# Altium footprint library Packages_BGA.PcbLib: 4 footprints
Each footprint in its own frame and in the unit in brackets; x right, y up, seen from the top. Pads: shape width x height; smd on the part's side, far side on the other; paste and mask are expansions set on the pad; w line width, h text height; cw(c..) or ccw(c..) is an arc to the next point about the centre after c.
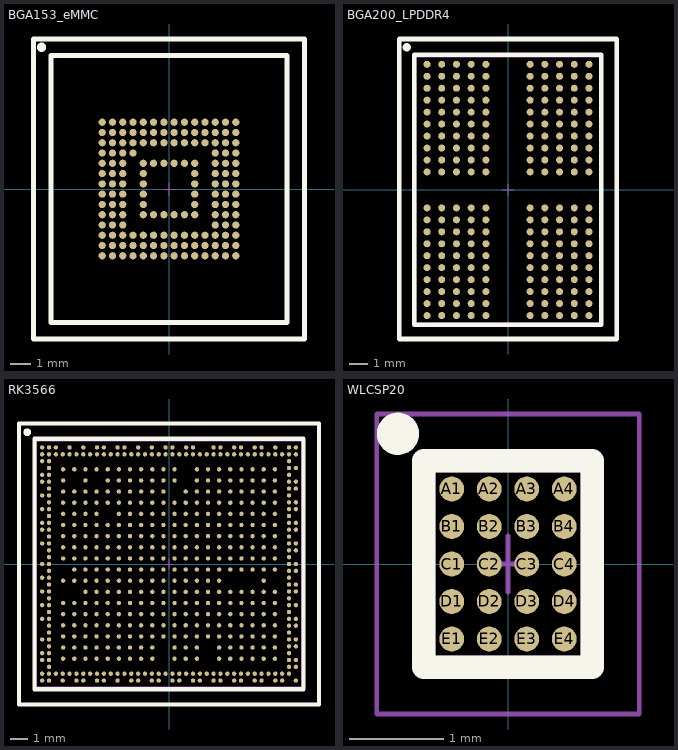
[diagram p0: the footprints below, top view; thin cyan lines are the x and y axes]

## BGA153_eMMC [mm]
height 0.8
pads (153):
  round 0.35 smd: A1(-3.25,3.25) A2(-2.75,3.25) A3(-2.25,3.25) A4(-1.75,3.25) A5(-1.25,3.25) A6(-0.75,3.25) A7(-0.25,3.25) A8(0.25,3.25) A9(0.75,3.25) A10(1.25,3.25) A11(1.75,3.25) A12(2.25,3.25) A13(2.75,3.25) A14(3.25,3.25) B1(-3.25,2.75) B2(-2.75,2.75) B3(-2.25,2.75) B4(-1.75,2.75) B5(-1.25,2.75) B6(-0.75,2.75) B7(-0.25,2.75) B8(0.25,2.75) B9(0.75,2.75) B10(1.25,2.75) B11(1.75,2.75) B12(2.25,2.75) B13(2.75,2.75) B14(3.25,2.75) C1(-3.25,2.25) C2(-2.75,2.25) C3(-2.25,2.25) C4(-1.75,2.25) C5(-1.25,2.25) C6(-0.75,2.25) C7(-0.25,2.25) C8(0.25,2.25) C9(0.75,2.25) C10(1.25,2.25) C11(1.75,2.25) C12(2.25,2.25) C13(2.75,2.25) C14(3.25,2.25) D1(-3.25,1.75) D2(-2.75,1.75) D3(-2.25,1.75) D4(-1.75,1.75) D12(2.25,1.75) D13(2.75,1.75) D14(3.25,1.75) E1(-3.25,1.25) E2(-2.75,1.25) E3(-2.25,1.25) E5(-1.25,1.25) E6(-0.75,1.25) E7(-0.25,1.25) E8(0.25,1.25) E9(0.75,1.25) E10(1.25,1.25) E12(2.25,1.25) E13(2.75,1.25) E14(3.25,1.25) F1(-3.25,0.75) F2(-2.75,0.75) F3(-2.25,0.75) F5(-1.25,0.75) F10(1.25,0.75) F12(2.25,0.75) F13(2.75,0.75) F14(3.25,0.75) G1(-3.25,0.25) G2(-2.75,0.25) G3(-2.25,0.25) G5(-1.25,0.25) G10(1.25,0.25) G12(2.25,0.25) G13(2.75,0.25) G14(3.25,0.25) H1(-3.25,-0.25) H2(-2.75,-0.25) H3(-2.25,-0.25) H5(-1.25,-0.25) H10(1.25,-0.25) H12(2.25,-0.25) H13(2.75,-0.25) H14(3.25,-0.25) J1(-3.25,-0.75) J2(-2.75,-0.75) J3(-2.25,-0.75) J5(-1.25,-0.75) J10(1.25,-0.75) J12(2.25,-0.75) J13(2.75,-0.75) J14(3.25,-0.75) K1(-3.25,-1.25) K2(-2.75,-1.25) K3(-2.25,-1.25) K5(-1.25,-1.25) K6(-0.75,-1.25) K7(-0.25,-1.25) K8(0.25,-1.25) K9(0.75,-1.25) K10(1.25,-1.25) K12(2.25,-1.25) K13(2.75,-1.25) K14(3.25,-1.25) L1(-3.25,-1.75) L2(-2.75,-1.75) L3(-2.25,-1.75) L12(2.25,-1.75) L13(2.75,-1.75) L14(3.25,-1.75) M1(-3.25,-2.25) M2(-2.75,-2.25) M3(-2.25,-2.25) M4(-1.75,-2.25) M5(-1.25,-2.25) M6(-0.75,-2.25) M7(-0.25,-2.25) M8(0.25,-2.25) M9(0.75,-2.25) M10(1.25,-2.25) M11(1.75,-2.25) M12(2.25,-2.25) M13(2.75,-2.25) M14(3.25,-2.25) N1(-3.25,-2.75) N2(-2.75,-2.75) N3(-2.25,-2.75) N4(-1.75,-2.75) N5(-1.25,-2.75) N6(-0.75,-2.75) N7(-0.25,-2.75) N8(0.25,-2.75) N9(0.75,-2.75) N10(1.25,-2.75) N11(1.75,-2.75) N12(2.25,-2.75) N13(2.75,-2.75) N14(3.25,-2.75) P1(-3.25,-3.25) P2(-2.75,-3.25) P3(-2.25,-3.25) P4(-1.75,-3.25) P5(-1.25,-3.25) P6(-0.75,-3.25) P7(-0.25,-3.25) P8(0.25,-3.25) P9(0.75,-3.25) P10(1.25,-3.25) P11(1.75,-3.25) P12(2.25,-3.25) P13(2.75,-3.25) P14(3.25,-3.25)
Top Overlay:
  circle w0.25: c-6.2,6.9 r0.1
  lines w0.25: -6.6,-7.3 6.6,-7.3 6.6,7.3 -6.6,7.3 -6.6,-7.3 ; -5.75,-6.5 -5.75,6.5 5.75,6.5 5.75,-6.5 -5.75,-6.5
Mechanical 13:
  circle w0.2: c-6.2,6.9 r0.1
  lines w0.1: -5.75,-6.5 -5.75,6.5 5.75,6.5 5.75,-6.5 -5.75,-6.5
Mechanical 15:
  lines w0.05: -0.3,0 0.3,0 ; 0,-0.3 0,0.3 ; -6.6,-7.3 -6.6,7.3 6.6,7.3 6.6,-7.3 -6.6,-7.3
3D body "eMMC_BGA-153.STEP": height 0.8, standoff 0, extent -5.75,-6.5 5.75,6.5

## BGA200_LPDDR4 [mm]
pads (200):
  round 0.38 smd: A1(-4.4,6.825) A2(-3.6,6.825) A3(-2.8,6.825) A4(-2,6.825) A5(-1.2,6.825) A8(1.2,6.825) A9(2,6.825) A10(2.8,6.825) A11(3.6,6.825) A12(4.4,6.825) AA1(-4.4,-6.175) AA2(-3.6,-6.175) AA3(-2.8,-6.175) AA4(-2,-6.175) AA5(-1.2,-6.175) AA8(1.2,-6.175) AA9(2,-6.175) AA10(2.8,-6.175) AA11(3.6,-6.175) AA12(4.4,-6.175) AB1(-4.4,-6.825) AB2(-3.6,-6.825) AB3(-2.8,-6.825) AB4(-2,-6.825) AB5(-1.2,-6.825) AB8(1.2,-6.825) AB9(2,-6.825) AB10(2.8,-6.825) AB11(3.6,-6.825) AB12(4.4,-6.825) B1(-4.4,6.175) B2(-3.6,6.175) B3(-2.8,6.175) B4(-2,6.175) B5(-1.2,6.175) B8(1.2,6.175) B9(2,6.175) B10(2.8,6.175) B11(3.6,6.175) B12(4.4,6.175) C1(-4.4,5.525) C2(-3.6,5.525) C3(-2.8,5.525) C4(-2,5.525) C5(-1.2,5.525) C8(1.2,5.525) C9(2,5.525) C10(2.8,5.525) C11(3.6,5.525) C12(4.4,5.525) D1(-4.4,4.875) D2(-3.6,4.875) D3(-2.8,4.875) D4(-2,4.875) D5(-1.2,4.875) D8(1.2,4.875) D9(2,4.875) D10(2.8,4.875) D11(3.6,4.875) D12(4.4,4.875) E1(-4.4,4.225) E2(-3.6,4.225) E3(-2.8,4.225) E4(-2,4.225) E5(-1.2,4.225) E8(1.2,4.225) E9(2,4.225) E10(2.8,4.225) E11(3.6,4.225) E12(4.4,4.225) F1(-4.4,3.575) F2(-3.6,3.575) F3(-2.8,3.575) F4(-2,3.575) F5(-1.2,3.575) F8(1.2,3.575) F9(2,3.575) F10(2.8,3.575) F11(3.6,3.575) F12(4.4,3.575) G1(-4.4,2.925) G2(-3.6,2.925) G3(-2.8,2.925) G4(-2,2.925) G5(-1.2,2.925) G8(1.2,2.925) G9(2,2.925) G10(2.8,2.925) G11(3.6,2.925) G12(4.4,2.925) H1(-4.4,2.275) H2(-3.6,2.275) H3(-2.8,2.275) H4(-2,2.275) H5(-1.2,2.275) H8(1.2,2.275) H9(2,2.275) H10(2.8,2.275) H11(3.6,2.275) H12(4.4,2.275) J1(-4.4,1.625) J2(-3.6,1.625) J3(-2.8,1.625) J4(-2,1.625) J5(-1.2,1.625) J8(1.2,1.625) J9(2,1.625) J10(2.8,1.625) J11(3.6,1.625) J12(4.4,1.625) K1(-4.4,0.975) K2(-3.6,0.975) K3(-2.8,0.975) K4(-2,0.975) K5(-1.2,0.975) K8(1.2,0.975) K9(2,0.975) K10(2.8,0.975) K11(3.6,0.975) K12(4.4,0.975) N1(-4.4,-0.975) N2(-3.6,-0.975) N3(-2.8,-0.975) N4(-2,-0.975) N5(-1.2,-0.975) N8(1.2,-0.975) N9(2,-0.975) N10(2.8,-0.975) N11(3.6,-0.975) N12(4.4,-0.975) P1(-4.4,-1.625) P2(-3.6,-1.625) P3(-2.8,-1.625) P4(-2,-1.625) P5(-1.2,-1.625) P8(1.2,-1.625) P9(2,-1.625) P10(2.8,-1.625) P11(3.6,-1.625) P12(4.4,-1.625) R1(-4.4,-2.275) R2(-3.6,-2.275) R3(-2.8,-2.275) R4(-2,-2.275) R5(-1.2,-2.275) R8(1.2,-2.275) R9(2,-2.275) R10(2.8,-2.275) R11(3.6,-2.275) R12(4.4,-2.275) T1(-4.4,-2.925) T2(-3.6,-2.925) T3(-2.8,-2.925) T4(-2,-2.925) T5(-1.2,-2.925) T8(1.2,-2.925) T9(2,-2.925) T10(2.8,-2.925) T11(3.6,-2.925) T12(4.4,-2.925) U1(-4.4,-3.575) U2(-3.6,-3.575) U3(-2.8,-3.575) U4(-2,-3.575) U5(-1.2,-3.575) U8(1.2,-3.575) U9(2,-3.575) U10(2.8,-3.575) U11(3.6,-3.575) U12(4.4,-3.575) V1(-4.4,-4.225) V2(-3.6,-4.225) V3(-2.8,-4.225) V4(-2,-4.225) V5(-1.2,-4.225) V8(1.2,-4.225) V9(2,-4.225) V10(2.8,-4.225) V11(3.6,-4.225) V12(4.4,-4.225) W1(-4.4,-4.875) W2(-3.6,-4.875) W3(-2.8,-4.875) W4(-2,-4.875) W5(-1.2,-4.875) W8(1.2,-4.875) W9(2,-4.875) W10(2.8,-4.875) W11(3.6,-4.875) W12(4.4,-4.875) Y1(-4.4,-5.525) Y2(-3.6,-5.525) Y3(-2.8,-5.525) Y4(-2,-5.525) Y5(-1.2,-5.525) Y8(1.2,-5.525) Y9(2,-5.525) Y10(2.8,-5.525) Y11(3.6,-5.525) Y12(4.4,-5.525)
Top Overlay:
  circle w0.25: c-5.5,7.75 r0.1
  lines w0.25: -5.9,-8.1 5.9,-8.1 5.9,8.2 -5.9,8.2 -5.9,-8.1 ; -5.1,-7.335 -5.1,7.335 5.075,7.335 5.075,-7.335 -5.1,-7.335
Mechanical 13:
  circle w0.2: c-5.5,7.75 r0.1
  lines w0.1: -5.025,-7.25 -5.025,7.25 5,7.25 5,-7.25 -5.025,-7.25
Mechanical 15:
  lines w0.05: -0.3,0 0.3,0 ; 0,-0.3 0,0.3 ; -5.9,-8.1 -5.9,8.2 5.9,8.2 5.9,-8.1 -5.9,-8.1
3D body "LPDDR4_BGA-200.STEP": height 0.95, standoff 0, extent -5,-7.25 5,7.25

## RK3566 [mm]
height 0.904
pads (565):
  round 0.25 smd mask+0.05: 1A1(-6.175,5.525) 1A2(-5.525,5.525) 1A3(-4.875,5.525) 1A4(-4.225,5.525) 1A5(-3.575,5.525) 1A6(-2.925,5.525) 1A7(-2.275,5.525) 1A8(-1.625,5.525) 1A9(-0.975,5.525) 1A10(-0.325,5.525) 1A11(0.325,5.525) 1A13(1.625,5.525) 1A14(2.275,5.525) 1A15(2.925,5.525) 1A16(3.575,5.525) 1A17(4.225,5.525) 1A18(4.875,5.525) 1A19(5.525,5.525) 1A20(6.175,5.525) 1B1(-6.175,4.875) 1B3(-4.875,4.875) 1B5(-3.575,4.875) 1B6(-2.925,4.875) 1B7(-2.275,4.875) 1B8(-1.625,4.875) 1B9(-0.975,4.875) 1B10(-0.325,4.875) 1B11(0.325,4.875) 1B13(1.625,4.875) 1B14(2.275,4.875) 1B15(2.925,4.875) 1B16(3.575,4.875) 1B17(4.225,4.875) 1B18(4.875,4.875) 1B19(5.525,4.875) 1B20(6.175,4.875) 1C1(-6.175,4.225) 1C2(-5.525,4.225) 1C3(-4.875,4.225) 1C4(-4.225,4.225) 1C5(-3.575,4.225) 1C6(-2.925,4.225) 1C7(-2.275,4.225) 1C8(-1.625,4.225) 1C9(-0.975,4.225) 1C10(-0.325,4.225) 1C12(0.975,4.225) 1C13(1.625,4.225) 1C14(2.275,4.225) 1C15(2.925,4.225) 1C16(3.575,4.225) 1C17(4.225,4.225) 1C18(4.875,4.225) 1C19(5.525,4.225) 1C20(6.175,4.225) 1D1(-6.175,3.575) 1D2(-5.525,3.575) 1D3(-4.875,3.575) 1D4(-4.225,3.575) 1D5(-3.575,3.575) 1D6(-2.925,3.575) 1D7(-2.275,3.575) 1D8(-1.625,3.575) 1D9(-0.975,3.575) 1D10(-0.325,3.575) 1D11(0.325,3.575) 1D12(0.975,3.575) 1D13(1.625,3.575) 1D14(2.275,3.575) 1D15(2.925,3.575) 1D16(3.575,3.575) 1D17(4.225,3.575) 1D18(4.875,3.575) 1D19(5.525,3.575) 1D20(6.175,3.575) 1E1(-6.175,2.925) 1E2(-5.525,2.925) 1E3(-4.875,2.925) 1E4(-4.225,2.925) 1E6(-2.925,2.925) 1E7(-2.275,2.925) 1E8(-1.625,2.925) 1E9(-0.975,2.925) 1E10(-0.325,2.925) 1E11(0.325,2.925) 1E12(0.975,2.925) 1E13(1.625,2.925) 1E14(2.275,2.925) 1E15(2.925,2.925) 1E16(3.575,2.925) 1E17(4.225,2.925) 1E18(4.875,2.925) 1E19(5.525,2.925) 1E20(6.175,2.925) 1F1(-6.175,2.275) 1F2(-5.525,2.275) 1F3(-4.875,2.275) 1F4(-4.225,2.275) 1F5(-3.575,2.275) 1F6(-2.925,2.275) 1F7(-2.275,2.275) 1F8(-1.625,2.275) 1F9(-0.975,2.275) 1F10(-0.325,2.275) 1F11(0.325,2.275) 1F12(0.975,2.275) 1F13(1.625,2.275) 1F14(2.275,2.275) 1F15(2.925,2.275) 1F16(3.575,2.275) 1F17(4.225,2.275) 1F18(4.875,2.275) 1F19(5.525,2.275) 1F20(6.175,2.275) 1G1(-6.175,1.625) 1G2(-5.525,1.625) 1G3(-4.875,1.625) 1G4(-4.225,1.625) 1G5(-3.575,1.625) 1G6(-2.925,1.625) 1G7(-2.275,1.625) 1G8(-1.625,1.625) 1G9(-0.975,1.625) 1G10(-0.325,1.625) 1G11(0.325,1.625) 1G12(0.975,1.625) 1G13(1.625,1.625) 1G14(2.275,1.625) 1G15(2.925,1.625) 1G16(3.575,1.625) 1G17(4.225,1.625) 1G18(4.875,1.625) 1G19(5.525,1.625) 1G20(6.175,1.625) 1H1(-6.175,0.975) 1H2(-5.525,0.975) 1H3(-4.875,0.975) 1H4(-4.225,0.975) 1H5(-3.575,0.975) 1H6(-2.925,0.975) 1H7(-2.275,0.975) 1H8(-1.625,0.975) 1H9(-0.975,0.975) 1H10(-0.325,0.975) 1H11(0.325,0.975) 1H12(0.975,0.975) 1H13(1.625,0.975) 1H14(2.275,0.975) 1H15(2.925,0.975) 1H16(3.575,0.975) 1H17(4.225,0.975) 1H18(4.875,0.975) 1H19(5.525,0.975) 1H20(6.175,0.975) 1J1(-6.175,0.325) 1J2(-5.525,0.325) 1J3(-4.875,0.325) 1J4(-4.225,0.325) 1J5(-3.575,0.325) 1J6(-2.925,0.325) 1J7(-2.275,0.325) 1J8(-1.625,0.325) 1J9(-0.975,0.325) 1J10(-0.325,0.325) 1J11(0.325,0.325) 1J12(0.975,0.325) 1J13(1.625,0.325) 1J14(2.275,0.325) 1J15(2.925,0.325) 1J16(3.575,0.325) 1J17(4.225,0.325) 1J18(4.875,0.325) 1J19(5.525,0.325) 1J20(6.175,0.325) 1K2(-5.525,-0.325) 1K3(-4.875,-0.325) 1K4(-4.225,-0.325) 1K5(-3.575,-0.325) 1K6(-2.925,-0.325) 1K7(-2.275,-0.325) 1K8(-1.625,-0.325) 1K9(-0.975,-0.325) 1K10(-0.325,-0.325) 1K11(0.325,-0.325) 1K12(0.975,-0.325) 1K13(1.625,-0.325) 1K14(2.275,-0.325) 1K15(2.925,-0.325) 1K16(3.575,-0.325) 1K17(4.225,-0.325) 1K18(4.875,-0.325) 1K19(5.525,-0.325) 1K20(6.175,-0.325) 1L1(-6.175,-0.975) 1L2(-5.525,-0.975) 1L3(-4.875,-0.975) 1L4(-4.225,-0.975) 1L5(-3.575,-0.975) 1L6(-2.925,-0.975) 1L7(-2.275,-0.975) 1L8(-1.625,-0.975) 1L9(-0.975,-0.975) 1L10(-0.325,-0.975) 1L11(0.325,-0.975) 1L12(0.975,-0.975) 1L13(1.625,-0.975) 1L14(2.275,-0.975) 1L15(2.925,-0.975) 1L19(5.525,-0.975) 1M3(-4.875,-1.625) 1M4(-4.225,-1.625) 1M5(-3.575,-1.625) 1M6(-2.925,-1.625) 1M7(-2.275,-1.625) 1M8(-1.625,-1.625) 1M9(-0.975,-1.625) 1M10(-0.325,-1.625) 1M11(0.325,-1.625) 1M12(0.975,-1.625) 1M13(1.625,-1.625) 1M14(2.275,-1.625) 1M15(2.925,-1.625) 1M16(3.575,-1.625) 1M17(4.225,-1.625) 1M18(4.875,-1.625) 1M19(5.525,-1.625) 1M20(6.175,-1.625) 1N1(-6.175,-2.275) 1N2(-5.525,-2.275) 1N3(-4.875,-2.275) 1N4(-4.225,-2.275) 1N5(-3.575,-2.275) 1N6(-2.925,-2.275) 1N7(-2.275,-2.275) 1N8(-1.625,-2.275) 1N9(-0.975,-2.275) 1N10(-0.325,-2.275) 1N11(0.325,-2.275) 1N12(0.975,-2.275) 1N13(1.625,-2.275) 1N14(2.275,-2.275) 1N15(2.925,-2.275) 1N16(3.575,-2.275) 1N17(4.225,-2.275) 1N18(4.875,-2.275) 1N19(5.525,-2.275) 1N20(6.175,-2.275) 1P1(-6.175,-2.925) 1P2(-5.525,-2.925) 1P3(-4.875,-2.925) 1P4(-4.225,-2.925) 1P5(-3.575,-2.925) 1P6(-2.925,-2.925) 1P7(-2.275,-2.925) 1P8(-1.625,-2.925) 1P9(-0.975,-2.925) 1P10(-0.325,-2.925) 1P11(0.325,-2.925) 1P12(0.975,-2.925) 1P13(1.625,-2.925) 1P14(2.275,-2.925) 1P15(2.925,-2.925) 1P16(3.575,-2.925) 1P17(4.225,-2.925) 1P18(4.875,-2.925) 1P19(5.525,-2.925) 1P20(6.175,-2.925) 1R1(-6.175,-3.575) 1R2(-5.525,-3.575) 1R3(-4.875,-3.575) 1R4(-4.225,-3.575) 1R5(-3.575,-3.575) 1R6(-2.925,-3.575) 1R7(-2.275,-3.575) 1R8(-1.625,-3.575) 1R9(-0.975,-3.575) 1R10(-0.325,-3.575) 1R11(0.325,-3.575) 1R12(0.975,-3.575) 1R13(1.625,-3.575) 1R14(2.275,-3.575) 1R15(2.925,-3.575) 1R16(3.575,-3.575) 1R17(4.225,-3.575) 1R18(4.875,-3.575) 1R19(5.525,-3.575) 1R20(6.175,-3.575) 1T1(-6.175,-4.225) 1T2(-5.525,-4.225) 1T3(-4.875,-4.225) 1T4(-4.225,-4.225) 1T5(-3.575,-4.225) 1T6(-2.925,-4.225) 1T7(-2.275,-4.225) 1T8(-1.625,-4.225) 1T9(-0.975,-4.225) 1T10(-0.325,-4.225) 1T11(0.325,-4.225) 1T12(0.975,-4.225) 1T13(1.625,-4.225) 1T14(2.275,-4.225) 1T15(2.925,-4.225) 1T16(3.575,-4.225) 1T17(4.225,-4.225) 1T18(4.875,-4.225) 1T19(5.525,-4.225) 1T20(6.175,-4.225) 1U1(-6.175,-4.875) 1U2(-5.525,-4.875) 1U3(-4.875,-4.875) 1U4(-4.225,-4.875) 1U5(-3.575,-4.875) 1U6(-2.925,-4.875) 1U7(-2.275,-4.875) 1U8(-1.625,-4.875) 1U9(-0.975,-4.875) 1U11(0.325,-4.875) 1U12(0.975,-4.875) 1U13(1.625,-4.875) 1U15(2.925,-4.875) 1U16(3.575,-4.875) 1U17(4.225,-4.875) 1U18(4.875,-4.875) 1U19(5.525,-4.875) 1U20(6.175,-4.875) 1V1(-6.175,-5.525) 1V2(-5.525,-5.525) 1V3(-4.875,-5.525) 1V4(-4.225,-5.525) 1V5(-3.575,-5.525) 1V6(-2.925,-5.525) 1V7(-2.275,-5.525) 1V8(-1.625,-5.525) 1V9(-0.975,-5.525) 1V11(0.325,-5.525) 1V12(0.975,-5.525) 1V13(1.625,-5.525) 1V15(2.925,-5.525) 1V16(3.575,-5.525) 1V17(4.225,-5.525) 1V18(4.875,-5.525) 1V19(5.525,-5.525) 1V20(6.175,-5.525) A1(-7.4,6.8) A2(-7,6.8) A3(-6.6,6.8) A5(-5.8,6.8) A7(-5,6.8) A9(-4.2,6.8) A10(-3.8,6.8) A12(-3,6.8) A13(-2.6,6.8) A15(-1.8,6.8) A17(-1,6.8) A19(-0.2,6.8) A20(0.2,6.8) A22(1,6.8) A23(1.4,6.8) A26(2.6,6.8) A27(3,6.8) A29(3.8,6.8) A30(4.2,6.8) A32(5,6.8) A33(5.4,6.8) A35(6.2,6.8) A37(7,6.8) A38(7.4,6.8) AA2(-7,-1.2) AA37(7,-1.2) AA38(7.4,-1.2) AB1(-7.4,-1.6) AB2(-7,-1.6) AB37(7,-1.6) AB38(7.4,-1.6) AC2(-7,-2) AC37(7,-2) AD1(-7.4,-2.4) AD2(-7,-2.4) AD37(7,-2.4) AD38(7.4,-2.4) AE2(-7,-2.8) AE37(7,-2.8) AF1(-7.4,-3.2) AF2(-7,-3.2) AF37(7,-3.2) AF38(7.4,-3.2) AG2(-7,-3.6) AG37(7,-3.6) AG38(7.4,-3.6) AH2(-7,-4) AH37(7,-4) AJ1(-7.4,-4.4) AJ2(-7,-4.4) AJ37(7,-4.4) AJ38(7.4,-4.4) AK2(-7,-4.8) AK37(7,-4.8) AK38(7.4,-4.8) AL1(-7.4,-5.2) AL2(-7,-5.2) AL37(7,-5.2) AM1(-7.4,-5.6) AM2(-7,-5.6) AM37(7,-5.6) AM38(7.4,-5.6) AN2(-7,-6) AN37(7,-6) AN38(7.4,-6) AP1(-7.4,-6.4) AP2(-7,-6.4) AP3(-6.6,-6.4) AP4(-6.2,-6.4) AP5(-5.8,-6.4) AP6(-5.4,-6.4) AP7(-5,-6.4) AP8(-4.6,-6.4) AP9(-4.2,-6.4) AP10(-3.8,-6.4) AP11(-3.4,-6.4) AP12(-3,-6.4) AP13(-2.6,-6.4) AP14(-2.2,-6.4) AP15(-1.8,-6.4) AP16(-1.4,-6.4) AP17(-1,-6.4) AP18(-0.6,-6.4) AP19(-0.2,-6.4) AP20(0.2,-6.4) AP21(0.6,-6.4) AP22(1,-6.4) AP23(1.4,-6.4) AP24(1.8,-6.4) AP25(2.2,-6.4) AP26(2.6,-6.4) AP27(3,-6.4) AP28(3.4,-6.4) AP29(3.8,-6.4) AP30(4.2,-6.4) AP31(4.6,-6.4) AP32(5,-6.4) AP33(5.4,-6.4) AP34(5.8,-6.4) AP35(6.2,-6.4) AP36(6.6,-6.4) AP37(7,-6.4) AR1(-7.4,-6.8) AR2(-7,-6.8) AR4(-6.2,-6.8) AR6(-5.4,-6.8) AR7(-5,-6.8) AR9(-4.2,-6.8) AR10(-3.8,-6.8) AR12(-3,-6.8) AR14(-2.2,-6.8) AR15(-1.8,-6.8) AR17(-1,-6.8) AR18(-0.6,-6.8) AR20(0.2,-6.8) AR21(0.6,-6.8) AR23(1.4,-6.8) AR24(1.8,-6.8) AR26(2.6,-6.8) AR27(3,-6.8) AR29(3.8,-6.8) AR30(4.2,-6.8) AR32(5,-6.8) AR33(5.4,-6.8) AR35(6.2,-6.8) AR36(6.6,-6.8) AR38(7.4,-6.8) B1(-7.4,6.4) B2(-7,6.4) B3(-6.6,6.4) B4(-6.2,6.4) B5(-5.8,6.4) B6(-5.4,6.4) B7(-5,6.4) B8(-4.6,6.4) B9(-4.2,6.4) B10(-3.8,6.4) B11(-3.4,6.4) B12(-3,6.4) B13(-2.6,6.4) B14(-2.2,6.4) B15(-1.8,6.4) B16(-1.4,6.4) B17(-1,6.4) B18(-0.6,6.4) B19(-0.2,6.4) B20(0.2,6.4) B21(0.6,6.4) B22(1,6.4) B23(1.4,6.4) B24(1.8,6.4) B25(2.2,6.4) B26(2.6,6.4) B27(3,6.4) B28(3.4,6.4) B29(3.8,6.4) B30(4.2,6.4) B31(4.6,6.4) B32(5,6.4) B33(5.4,6.4) B34(5.8,6.4) B35(6.2,6.4) B36(6.6,6.4) B37(7,6.4) B38(7.4,6.4) C1(-7.4,6) C2(-7,6) C37(7,6) D2(-7,5.6) D37(7,5.6) D38(7.4,5.6) E1(-7.4,5.2) E2(-7,5.2) E37(7,5.2) F1(-7.4,4.8) F2(-7,4.8) F37(7,4.8) F38(7.4,4.8) G2(-7,4.4) G37(7,4.4) G38(7.4,4.4) H1(-7.4,4) H2(-7,4) H37(7,4) J2(-7,3.6) J37(7,3.6) J38(7.4,3.6) K1(-7.4,3.2) K2(-7,3.2) K37(7,3.2) K38(7.4,3.2) L2(-7,2.8) L37(7,2.8) M1(-7.4,2.4) M2(-7,2.4) M37(7,2.4) M38(7.4,2.4) N1(-7.4,2) N2(-7,2) N37(7,2) N38(7.4,2) P2(-7,1.6) P37(7,1.6) R1(-7.4,1.2) R2(-7,1.2) R37(7,1.2) R38(7.4,1.2) T2(-7,0.8) T37(7,0.8) T38(7.4,0.8) U2(-7,0.4) U37(7,0.4) V1(-7.4,0) V2(-7,0) V37(7,0) V38(7.4,0) W2(-7,-0.4) W37(7,-0.4) W38(7.4,-0.4) Y1(-7.4,-0.8) Y2(-7,-0.8) Y37(7,-0.8)
Top Overlay:
  circle w0.25: c-8.273,7.689 r0.1
  lines w0.25: -8.75,-8.2 8.75,-8.2 8.75,8.2 -8.75,8.2 -8.75,-8.2 ; -7.845,-7.3 7.845,-7.3 7.845,7.3 -7.845,7.3 -7.845,-7.3
Mechanical 13:
  circle w0.2: c-8.273,7.689 r0.1
  lines w0.127: -7.75,-7.2 -7.75,7.2 7.75,7.2 7.75,-7.2 -7.75,-7.2
Mechanical 15:
  lines w0.05: -0.3,0 0.3,0 ; 0,-0.3 0,0.3 ; -8.75,-8.2 -8.75,8.2 8.75,8.2 8.75,-8.2 -8.75,-8.2
3D body "RK3566.STEP": height 0.9, standoff 0, extent -7.75,-7.2 7.75,7.2

## WLCSP20 [mm]
pads (20):
  round 0.265 smd mask+0.05: A1(-0.6,0.8) A2(-0.2,0.8) A3(0.2,0.8) A4(0.6,0.8) B1(-0.6,0.4) B2(-0.2,0.4) B3(0.2,0.4) B4(0.6,0.4) C1(-0.6,0) C2(-0.2,0) C3(0.2,0) C4(0.6,0) D1(-0.6,-0.4) D2(-0.2,-0.4) D3(0.2,-0.4) D4(0.6,-0.4) E1(-0.6,-0.8) E2(-0.2,-0.8) E3(0.2,-0.8) E4(0.6,-0.8)
Top Overlay:
  circle w0.25: c-1.173,1.389 r0.1
  lines w0.25: -0.9,-1.1 0.9,-1.1 0.9,1.1 -0.9,1.1 -0.9,-1.1
Mechanical 13:
  circle w0.2: c-1.173,1.389 r0.1
  lines w0.1: -0.825,-1.025 -0.825,1.025 0.825,1.025 0.825,-1.025 -0.825,-1.025
Mechanical 15:
  lines w0.05: -0.3,0 0.3,0 ; 0,-0.3 0,0.3 ; -1.4,-1.6 -1.4,1.6 1.4,1.6 1.4,-1.6 -1.4,-1.6
3D body "WLCSP20_RCC.step": height 0.64, standoff 0, extent -0.826,-1.029 0.826,1.029